# Altium footprint library TSOP-32.PcbLib: 1 footprints
Each footprint in its own frame and in the unit in brackets; x right, y up, seen from the top. Pads: shape width x height; smd on the part's side, far side on the other; paste and mask are expansions set on the pad; w line width, h text height; cw(c..) or ccw(c..) is an arc to the next point about the centre after c.
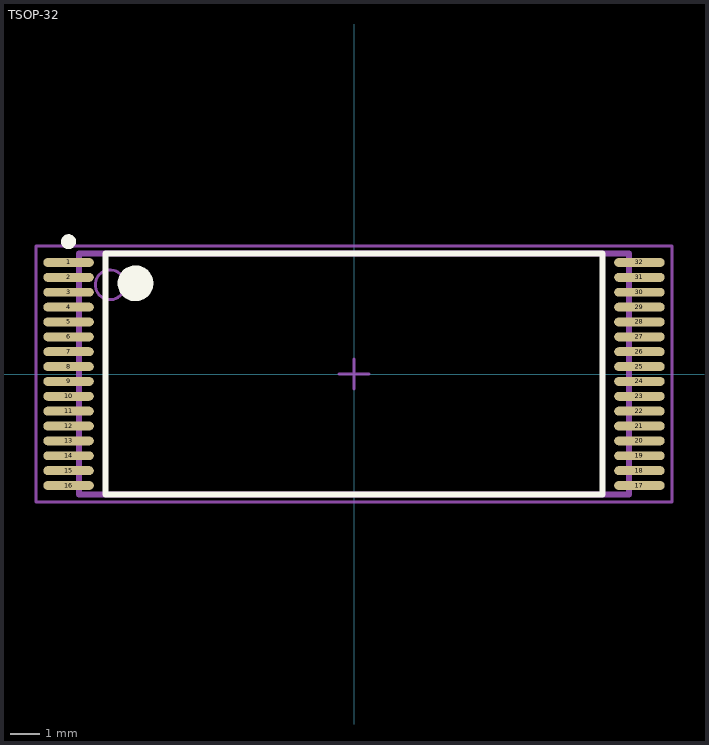
[diagram p0: the footprint, top view; thin cyan lines are the x and y axes]

## TSOP-32 [mm] "TSSOP, 32-Leads, Body 8,1x18,5mm (max), Pitch 0,50mm, IPC Medium Density"
height 1.2
pads (32):
  oval 1.7x0.3 smd: 1(-9.6,3.75) 2(-9.6,3.25) 3(-9.6,2.75) 4(-9.6,2.25) 5(-9.6,1.75) 6(-9.6,1.25) 7(-9.6,0.75) 8(-9.6,0.25) 9(-9.6,-0.25) 10(-9.6,-0.75) 11(-9.6,-1.25) 12(-9.6,-1.75) 13(-9.6,-2.25) 14(-9.6,-2.75) 15(-9.6,-3.25) 16(-9.6,-3.75) 17(9.6,-3.75) 18(9.6,-3.25) 19(9.6,-2.75) 20(9.6,-2.25) 21(9.6,-1.75) 22(9.6,-1.25) 23(9.6,-0.75) 24(9.6,-0.25) 25(9.6,0.25) 26(9.6,0.75) 27(9.6,1.25) 28(9.6,1.75) 29(9.6,2.25) 30(9.6,2.75) 31(9.6,3.25) 32(9.6,3.75)
Top Overlay:
  circle w0.6: c-7.35,3.05 r0.3
  circle w0.25: c-9.6,4.45 r0.125
  lines w0.2: -8.35,-4.05 8.35,-4.05 8.35,4.05 -8.35,4.05 -8.35,-4.05
Mechanical 13:
  circle w0.1: c-8.2,3 r0.5
  lines w0.2: -9.25,-4.05 9.25,-4.05 9.25,4.05 -9.25,4.05 -9.25,-4.05
  text ".Designator" at -5.461,-0.889 h2.5
Mechanical 15:
  lines w0.1: -0.5,0 0.5,0 ; 0,-0.5 0,0.5 ; -10.7,-4.3 10.7,-4.3 10.7,4.3 -10.7,4.3 -10.7,-4.3
3D body: height 1.2, standoff 0.1, extent -9.25,-4.05 9.25,4.05